# Altium footprint library OV5460.PcbLib: 14 footprints
Each footprint in its own frame and in the unit in brackets; x right, y up, seen from the top. Pads: shape width x height; smd on the part's side, far side on the other; paste and mask are expansions set on the pad; w line width, h text height; cw(c..) or ccw(c..) is an arc to the next point about the centre after c.
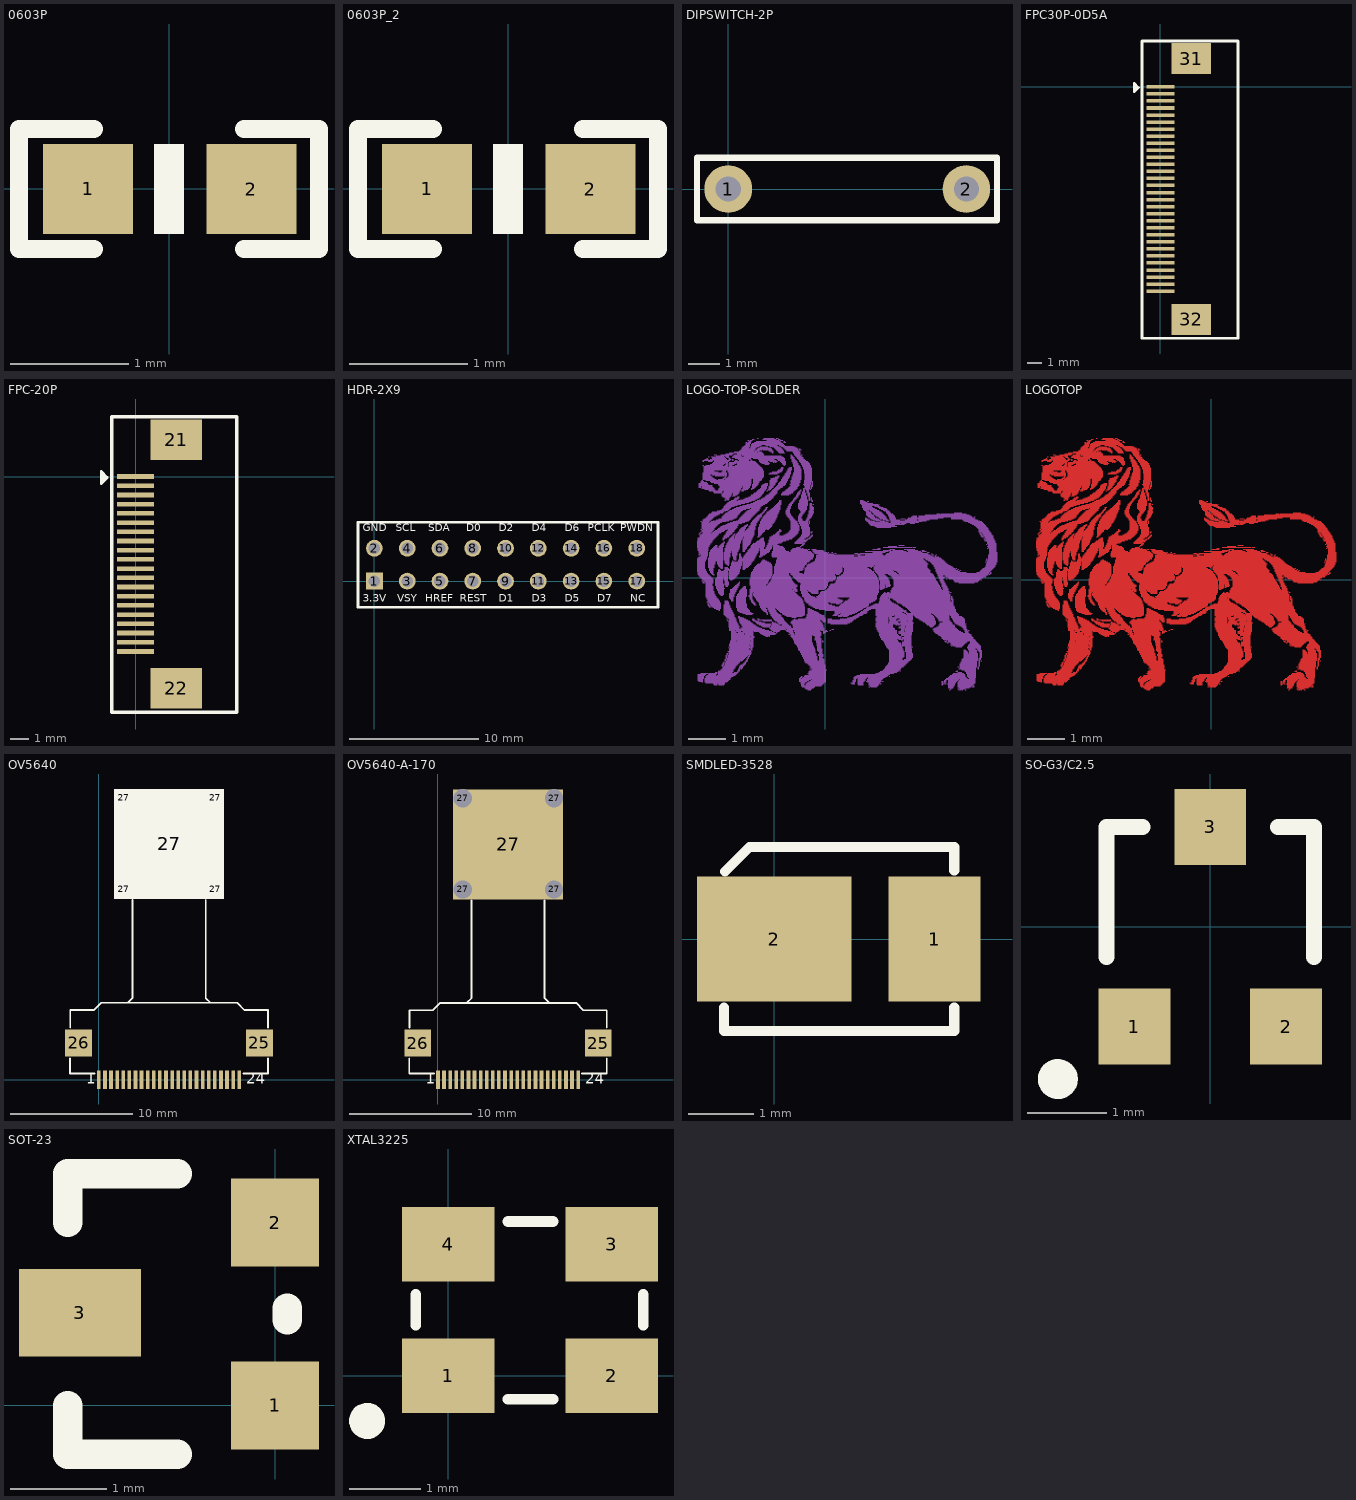
[diagram p0: the footprints below, top view; thin cyan lines are the x and y axes]

## 0603P [mil]
pads (2):
  rect 30x30 smd: 1(-27,0) 2(27.5,-0.06)
Top Overlay:
  region: 5.02,-15.06 5.02,14.94 -4.98,14.94 -4.98,-15.06
  lines w6: -25,-20.06 -50,-20.06 -50,19.94 -25,19.94 ; 25,-20.06 50,-20.06 50,19.94 25,19.94

## 0603P_2 [mil]
pads (2):
  rect 30x30 smd: 1(-27,0) 2(27.5,-0.06)
Top Overlay:
  region: 5,-15.06 5,14.94 -5,14.94 -5,-15.06
  lines w6: -25,-20.06 -50,-20.06 -50,19.94 -25,19.94 ; 25,-20.06 50,-20.06 50,19.94 25,19.94

## DIPSWITCH-2P [mil]
pads (2):
  round 60 hole 31.5: 1(0,0) 2(300,0)
Top Overlay:
  lines w7.87: -39.37,-39.37 338.58,-39.37 338.58,39.37 -39.37,39.37 -39.37,-39.37

## FPC30P-0D5A [mm] "FPC30P-0D5A"
pads (32):
  rect 2x0.25 smd: 1(0,0) 2(0,-0.5) 3(0,-1.001) 4(0,-1.501) 5(0,-2.002) 6(0,-2.502) 7(0,-3.002) 8(0,-3.5) 9(0,-4.001) 10(0,-4.501) 11(0,-5.001) 12(0,-5.502) 13(0,-6.002) 14(0,-6.5) 15(0,-7) 16(0,-7.501) 17(0,-8.001) 18(0,-8.501) 19(0,-9.002) 20(0,-9.502) 21(0,-10) 22(0,-10.5) 23(0,-11.001) 24(0,-11.501) 25(0,-12.002) 26(0,-12.502) 27(0,-13.002) 28(0,-13.5) 29(0,-14) 30(0,-14.501)
  rect 2.799x2.2 smd: 31(2.2,1.998) 32(2.2,-16.5)
Top Overlay:
  lines w0.152: -1.76,-0.212 -1.76,0.118 ; -1.661,-0.151 -1.661,0.039 ; -1.542,-0.055 -1.864,0.268 -1.864,-0.377 -1.539,-0.052
  lines w0.2: -1.3,-17.851 5.5,-17.851 5.5,3.249 -1.3,3.249 -1.3,-17.851

## FPC-20P [mm]
pads (22):
  rect 2x0.25 smd: 1(0,0) 2(0,-0.5) 3(0,-1.001) 4(0,-1.501) 5(0,-2.002) 6(0,-2.502) 7(0,-3.002) 8(0,-3.5) 9(0,-4.001) 10(0,-4.501) 11(0,-5.001) 12(0,-5.502) 13(0,-6.002) 14(0,-6.5) 15(0,-7) 16(0,-7.501) 17(0,-8.001) 18(0,-8.501) 19(0,-9.002) 20(0,-9.502)
  rect 2.799x2.2 smd: 21(2.2,1.998) 22(2.2,-11.5)
Top Overlay:
  lines w0.152: -1.76,-0.212 -1.76,0.118 ; -1.661,-0.151 -1.661,0.039 ; -1.542,-0.055 -1.864,0.268 -1.864,-0.377 -1.539,-0.052
  lines w0.2: -1.3,-12.8 5.5,-12.8 5.5,3.249 -1.3,3.249 -1.3,-12.8

## HDR-2X9 [mm]
pads (18):
  rect 1.3x1.3 hole 0.889: 1(0,0)
  round 1.3 hole 0.889: 2(0,2.54) 3(2.54,0) 4(2.54,2.54) 5(5.08,0) 6(5.08,2.54) 7(7.62,0) 8(7.62,2.54) 9(10.16,0) 10(10.16,2.54) 11(12.7,0) 12(12.7,2.54) 13(15.24,0) 14(15.24,2.54) 15(17.78,0) 16(17.78,2.54) 17(20.32,0) 18(20.32,2.54)
Top Overlay:
  lines w0.2: -1.27,-2.032 -1.27,4.572 21.971,4.572 21.971,-2.032 -1.27,-2.032
  text "VSY" at 1.778,-1.778 h1
  text "SCL" at 1.651,3.683 h1
  text "GND" at -0.889,3.683 h1
  text "3.3V" at -0.889,-1.778 h1
  text "SDA" at 4.191,3.683 h1
  text "HREF" at 3.937,-1.778 h1
  text "D0" at 7.112,3.683 h1
  text "REST" at 6.604,-1.778 h1
  text "D1" at 9.652,-1.778 h1
  text "D2" at 9.652,3.683 h1
  text "D3" at 12.192,-1.778 h1
  text "D4" at 12.192,3.683 h1
  text "D5" at 14.732,-1.778 h1
  text "D6" at 14.732,3.683 h1
  text "D7" at 17.272,-1.778 h1
  text "PCLK" at 16.51,3.683 h1
  text "PWDN" at 19.05,3.683 h1
  text "NC" at 19.812,-1.778 h1

## LOGO-TOP-SOLDER [mm]
Top Solder:
  drawing of 2479 lines, arcs and shapes, not listed

## LOGOTOP [mm]
Top Layer:
  drawing of 2479 lines, arcs and shapes, not listed

## OV5640 [mm]
pads (31):
  rect 0.3x1.5 smd: 1(0,0) 2(0.5,0) 3(1,0) 4(1.5,0) 5(2,0) 6(2.5,0) 7(3,0) 8(3.5,0) 9(4,0) 10(4.5,0) 11(5,0) 12(5.5,0) 13(6,0) 14(6.5,0) 15(7,0) 16(7.5,0) 17(8,0) 18(8.5,0) 19(9,0) 20(9.5,0) 21(10,0) 22(10.5,0) 23(11,0) 24(11.5,0)
  rect 2.2x2.2 smd: 25(13.151,3.023) 26(-1.657,3.023)
  round 1.2 on Top Overlay: 27(2.032,15.621) 27(2.032,23.114) 27(9.525,15.621) 27(9.525,23.114)
  rect 9x9 on Top Overlay: 27(5.753,19.317)
Top Overlay:
  lines w0.152: -2.356,1.753 -2.356,0.508 -0.336,0.508 ; -2.343,4.293 -2.343,5.708 ; -2.325,5.708 -0.432,5.708 -0.413,5.708 0.187,6.308 ; 0.33,6.308 0.187,6.308 ; 2.159,6.308 2.371,6.308 2.753,6.69 2.753,14.732 ; 8.753,14.732 8.753,13.424 8.753,6.724 8.753,6.699 9.144,6.308 ; 9.186,6.308 9.271,6.308 ; 11.83,0.508 13.85,0.508 13.85,1.753 ; 13.85,4.293 13.85,5.708 ; 13.85,5.715 13.843,5.708 11.93,5.708 11.33,6.308 0.187,6.308
  text "24" at 12.065,-0.635 h1.52
  text "1" at -1.016,-0.635 h1.52

## OV5640-A-170 [mm]
pads (31):
  rect 0.3x1.5 smd: 1(0,0) 2(0.5,0) 3(1,0) 4(1.5,0) 5(2,0) 6(2.5,0) 7(3,0) 8(3.5,0) 9(4,0) 10(4.5,0) 11(5,0) 12(5.5,0) 13(6,0) 14(6.5,0) 15(7,0) 16(7.5,0) 17(8,0) 18(8.5,0) 19(9,0) 20(9.5,0) 21(10,0) 22(10.5,0) 23(11,0) 24(11.5,0)
  rect 2.2x2.2 smd: 25(13.151,3.023) 26(-1.657,3.023)
  round 1.2 hole 1.5: 27(2.032,15.621) 27(2.032,23.114) 27(9.525,15.621) 27(9.525,23.114)
  rect 9x9 smd: 27(5.753,19.317)
Top Overlay:
  lines w0.152: -2.356,1.753 -2.356,0.508 -0.336,0.508 ; -2.343,4.293 -2.343,5.708 ; -2.325,5.708 -0.432,5.708 -0.413,5.708 0.187,6.308 ; 0.33,6.308 0.187,6.308 ; 2.159,6.308 2.371,6.308 2.753,6.69 2.753,14.732 ; 8.753,14.732 8.753,13.424 8.753,6.724 8.753,6.699 9.144,6.308 ; 9.186,6.308 9.271,6.308 ; 11.83,0.508 13.85,0.508 13.85,1.753 ; 13.85,4.293 13.85,5.708 ; 13.85,5.715 13.843,5.708 11.93,5.708 11.33,6.308 0.187,6.308
  text "1" at -1.016,-0.635 h1.52
  text "24" at 12.065,-0.635 h1.52

## SMDLED-3528 [mm]
pads (2):
  rect 1.4x1.9 smd: 1(2.438,0)
  rect 2.35x1.9 smd: 2(0,0)
Top Overlay:
  lines w0.152: -0.762,-1.041 -0.762,-1.397 2.738,-1.397 2.738,-1.041 ; -0.749,1.029 -0.375,1.403 2.738,1.403 2.738,1.041

## SO-G3/C2.5 [mm]
pads (3):
  rect 0.9x0.95 smd: 1(-0.95,-1.25) 2(0.95,-1.25) 3(0,1.25)
Top Overlay:
  circle w0.25: c-1.907,-1.905 r0.125
  lines w0.2: -1.3,-0.375 -1.3,1.25 -0.85,1.25 ; 0.85,1.25 1.3,1.25 1.3,-0.375

## SOT-23 [mil]
pads (3):
  rect 36x36 smd: 1(0,0) 2(0,75)
  rect 50x36 smd: 3(-80,38)
Top Overlay:
  lines w12: -85,0 -85,-20 -40,-20 ; -85,75 -85,95 -40,95 ; 5,35 5,40

## XTAL3225 [mm]
pads (4):
  rect 1.3x1.05 smd: 1(0,0) 2(2.3,0) 3(2.3,1.85) 4(0,1.85)
Top Overlay:
  circle w0.254: c-1.143,-0.635 r0.127
  lines w0.152: -0.457,0.711 -0.457,1.143 ; 0.838,-0.33 1.473,-0.33 ; 0.838,2.17 1.473,2.17 ; 2.743,0.711 2.743,1.143